# Altium footprint library 47uF_PolCap_EEEFN1C470UR.PcbLib: 1 footprints
Each footprint in its own frame and in the unit in brackets; x right, y up, seen from the top. Pads: shape width x height; smd on the part's side, far side on the other; paste and mask are expansions set on the pad; w line width, h text height; cw(c..) or ccw(c..) is an arc to the next point about the centre after c.
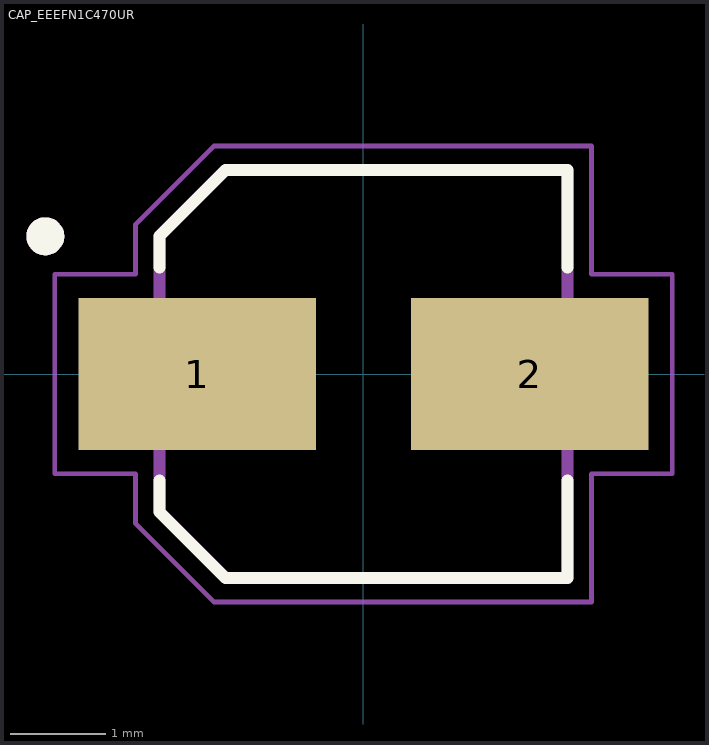
[diagram p0: the footprint, top view; thin cyan lines are the x and y axes]

## CAP_EEEFN1C470UR [mm]
pads (2):
  rect 2.5x1.6 smd: 1(-1.75,0) 2(1.75,0)
Top Overlay:
  circle w0.2: c-3.35,1.45 r0.1
  lines w0.127: -2.15,-1.12 -2.15,-1.45 -1.45,-2.15 2.15,-2.15 2.15,-1.12 ; -2.15,1.12 -2.15,1.45 -1.45,2.15 2.15,2.15 2.15,1.12
Mechanical 13:
  circle w0.2: c-3.35,1.45 r0.1
  lines w0.127: -2.15,-1.45 -1.45,-2.15 2.15,-2.15 2.15,2.15 -1.45,2.15 -2.15,1.45 -2.15,-1.45
Mechanical 15:
  lines w0.05: -3.25,-1.05 -3.25,1.05 -2.4,1.05 -2.4,1.575 -1.575,2.4 2.4,2.4 2.4,1.05 3.25,1.05 3.25,-1.05 2.4,-1.05 2.4,-2.4 -1.575,-2.4 -2.4,-1.575 -2.4,-1.05 -3.25,-1.05
3D body "step_temp.STEP": height 5.81, standoff 0.01, extent -2.5,-2.15 2.5,2.15